# Altium schematic symbol library tps25200drvr.SchLib: 1 symbol
Pins are listed as number, name and electrical type; pins without a type are passive.

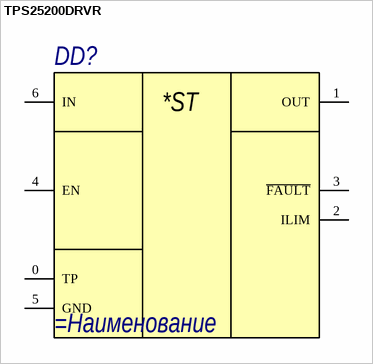
[diagram p0: symbol TPS25200DRVR]

## TPS25200DRVR
designator DD?
=Описание
pins: 0 TP, 1 OUT, 2 ILIM, 3 ~{FAULT}, 4 EN, 5 GND, 6 IN
text: *ST